# Altium footprint library PCB - LEADED - SOP - MAXIM MSOP-8 uMAX.PcbLib: 1 footprints
Each footprint in its own frame and in the unit in brackets; x right, y up, seen from the top. Pads: shape width x height; smd on the part's side, far side on the other; paste and mask are expansions set on the pad; w line width, h text height; cw(c..) or ccw(c..) is an arc to the next point about the centre after c.
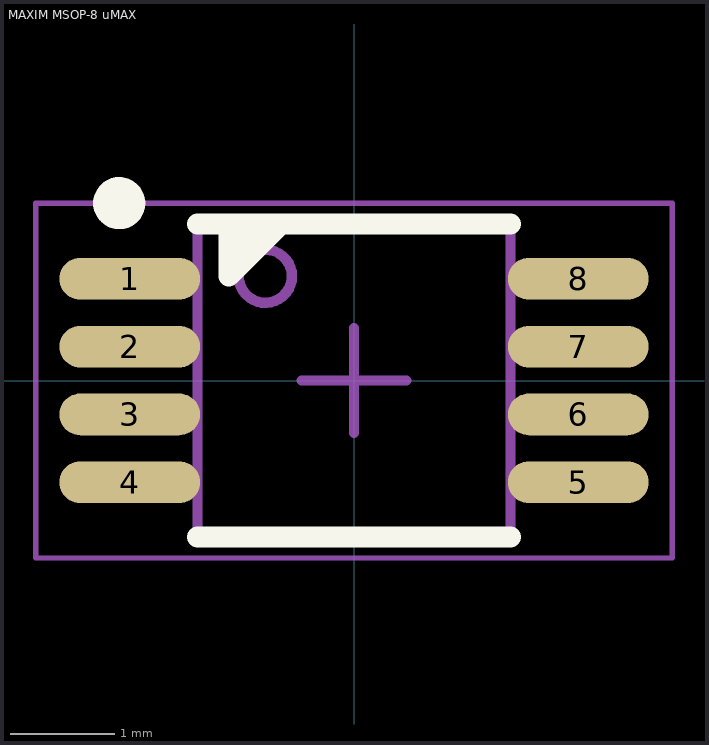
[diagram p0: the footprint, top view; thin cyan lines are the x and y axes]

## MAXIM MSOP-8 uMAX [mm] "TSOP, 8-Leads, Body 3.00x3.00mm, Pitch 0.65mm, Thermal Pad 1.52x2.18mm, IPC Medium Density"
height 1.1
pads (8):
  oval 1.35x0.4 smd: 1(-2.15,0.975) 2(-2.15,0.325) 3(-2.15,-0.325) 4(-2.15,-0.975) 5(2.15,-0.975) 6(2.15,-0.325) 7(2.15,0.325) 8(2.15,0.975)
Top Overlay:
  circle w0.25: c-2.25,1.7 r0.125
  region: -1.2,1 -0.7,1.5 -1.1,1.5 -1.2,1.4
  region: -0.95,1.5
  lines w0.2: -1.5,-1.5 1.5,-1.5 ; -1.5,1.5 1.5,1.5 ; -1.2,1.4 -1.2,1 -0.7,1.5
Mechanical 13:
  circle w0.1: c-0.85,1 r0.255
  lines w0.1: -1.5,-1.5 1.5,-1.5 1.5,1.5 -1.5,1.5 -1.5,-1.5
Mechanical 15:
  lines w0.05: -3.05,-1.7 -3.05,1.7 3.05,1.7 3.05,-1.7 -3.05,-1.7
  lines w0.1: -0.5,0 0.5,0 ; 0,-0.5 0,0.5
3D body "Maxim - MSOP-8 uMAX v5.step": height 1.05, standoff 0, extent -2.45,-1.5 2.45,1.5